# EAGLE library part CA3140 (library EW_00_Ken)
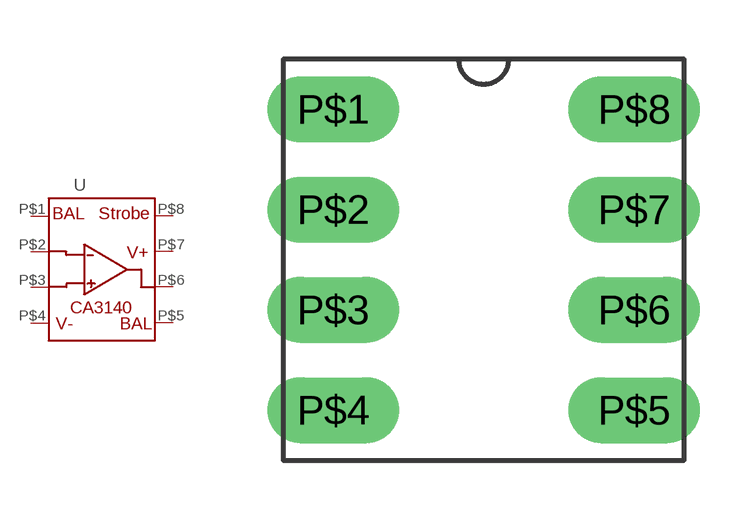
[diagram p8: symbol with the pads of DIL_SOCKET_8_PIN; footprint DIL_SOCKET_8_PIN]

Designator prefix U

## CA3140  [DIL_SOCKET_8_PIN]
P$1  P$1
P$2  P$2
P$3  P$3
P$4  P$4
P$5  P$5
P$6  P$6
P$7  P$7
P$8  P$8

## Footprint DIL_SOCKET_8_PIN (pad centres in mm)
drill 0.6 pad 1.676 long: P$1 -3.81,3.81; P$2 -3.81,1.27; P$3 -3.81,-1.27; P$4 -3.81,-3.81; P$5 3.81,-3.81; P$6 3.81,-1.27; P$7 3.81,1.27; P$8 3.81,3.81